# Altium footprint library MMSZ5234BT1G.PcbLib: 2 footprints
Each footprint in its own frame and in the unit in brackets; x right, y up, seen from the top. Pads: shape width x height; smd on the part's side, far side on the other; paste and mask are expansions set on the pad; w line width, h text height; cw(c..) or ccw(c..) is an arc to the next point about the centre after c.
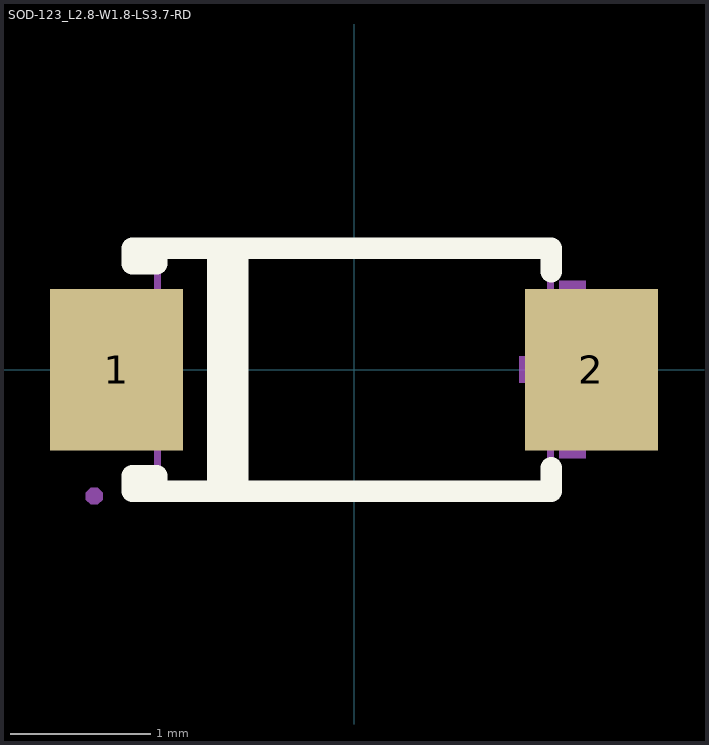
[diagram p0: the footprints below, top view; thin cyan lines are the x and y axes]

## PCBComponent_1 [mm]

## SOD-123_L2.8-W1.8-LS3.7-RD [mm]
pads (2):
  rect 0.95x1.15 smd: 1(-1.692,0) 2(1.692,0)
Top Overlay:
  lines w0.152: -0.97,-0.866 -0.97,0.866 ; -0.827,-0.866 -0.827,0.866 ; 1.406,-0.698 1.406,-0.866 -1.406,-0.866 ; 1.406,0.698 1.406,0.866 -1.406,0.866 ; -1.406,-0.866 -1.406,-0.755 -1.58,-0.755 -1.58,-0.866 -1.406,-0.866 ; -1.406,0.866 -1.406,0.755 -1.58,0.755 -1.58,0.866 -1.406,0.866
Mechanical 6:
  region: 1.651,0.635 1.651,-0.629 1.461,-0.629 1.461,0.635
  region: 1.935,0.098 1.935,-0.092 1.177,-0.092 1.177,0.098
  region: -2.03,0.095 -2.03,-0.095 -1.272,-0.095 -1.272,0.095
Mechanical 15:
  region: 1.851,-0.465 1.851,0.465 1.301,0.465 1.301,-0.465
  region: -1.851,-0.465 -1.851,0.465 -1.301,0.465 -1.301,-0.465
  region: -1.79,-0.9 -1.79,-0.875 -1.826,-0.84 -1.875,-0.84 -1.91,-0.875 -1.91,-0.9 -1.91,-0.925 -1.875,-0.96 -1.826,-0.96 -1.79,-0.925
  lines w0.051: -1.4,-0.9 1.4,-0.9 1.4,0.9 -1.4,0.9 -1.4,-0.9
3D body "MMSZ5234BT1G.STEP": height 1.35, standoff 0, extent -1.84,-0.8 1.84,0.8